# EAGLE library part SAMPLE (library SpecialFunctions)
Behavioral Sample and Hold function block
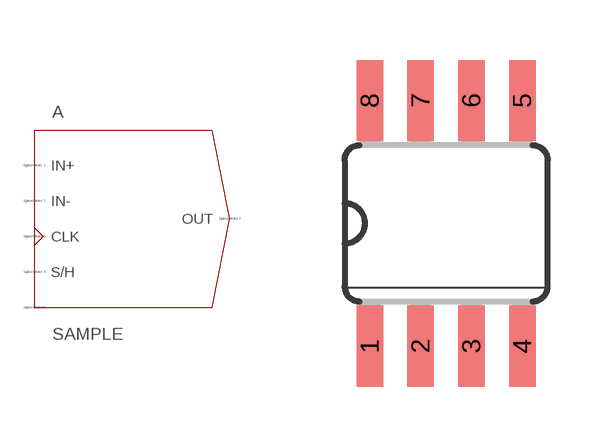
[diagram p0: symbol with the pads of SO08; footprint SO08]

Designator prefix A

## SAMPLE (SPICEMODEL: SAMPLEHOLD)  [SO08]
1  CLK  pas
2  COM  pas
3  IN+  pas
4  IN-  pas
5  OUT  pas
6  S/H  pas

## Footprint SO08 (pad centres in mm)
Small Outline package 150 mil
smd 0.66 x 2.032: 1 -1.905,-3.073; 2 -0.635,-3.073; 3 0.635,-3.073; 4 1.905,-3.073; 5 1.905,3.073; 6 0.635,3.073; 7 -0.635,3.073; 8 -1.905,3.073